# EAGLE library part 691411410010 (library Wurth_Connectors_WR-TBL Spring Clamp)
WR-TBL Serie 4114 - 7.62 mm Screwless Horizontal Cable Entry KIND PROPERTIES Pitch 7.62 mm MATERIAL PROPERTIES Insulator Material PA6/66 Insulator Flammability Rating UL94 V-0 Insulator Color Grey Contact Material INOX Steel Contact Type Stamped Wire Guard Material Copper Alloy with Tin over Nickel GENERAL INFORMATION Operating Temperature -30 up to +120 °C Compliance Lead free / RoHS ELECTRICAL PROPERTIES IR UL 10 A IR VDE 10 A Working Voltage [UL] 300 V (AC) Working Voltage [VDE] 750 V (AC) Withstanding Voltage [UL] 1600 V (AC) Withstanding Voltage [VDE] 3000 V (AC) Contact Resistance 20 mΩ Mechanical Properties Wire Strip Length 10 (mm) Wire Properties Solid Wire Section (AWG) 16 to 30 (AWG) Solid Wire Section (Metric) 1.31 to 0.05 (mm²) Stranded Wire Section (AWG) 16 to 30 (AWG) Stranded Wire Section (Metric) 1.31 to 0.05 (mm²) CERTIFICATION UL Approval E150931; E150931 Cat No. MRT1 (1) VDE Approval 40021396 VDE Approval 40021396 Type MRT1 Packaging Properties Packaging Box <https://www.we-online.com/catalog/media/o84296v209%20Family_WR-TBL4_6914114100xx.jpg> Details see: https://www.we-online.com/catalog/en/TBL_7_62_4114_SCREWLESS_HORIZONTAL_ENTRY_6914114100xx/ Updated by Ella Wu 2019-12-31 2019(C) Wurth Elektronik
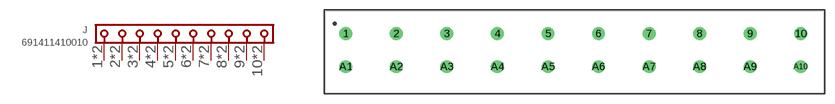
[diagram p102: symbol with the pads of 691411410010; footprint 691411410010]

Designator prefix J

## 691411410010 (DATASHEET-URL: https://www.we-online.com/redexpert/spec/691411410010?ae; IR-UL: 10A; IR-VDE: 10A; MOUNT: THT; PART-NUMBER: 691411410010; PINS: 10; PITCH: 7.62mm; TYPE: Horizontal; VALUE: 691411410010; WIRE: 16 to 30 (AWG) 1.31 to 0.05 (mm²); WORKING-VOLTAGE-UL: 300V (AC); WORKING-VOLTAGE-VDE: 750V (AC))  [691411410010]
1  1  pas
2  2  pas
3  3  pas
4  4  pas
5  5  pas
6  6  pas
7  7  pas
8  8  pas
9  9  pas
10  10  pas
A1  1  pas
A2  2  pas
A3  3  pas
A4  4  pas
A5  5  pas
A6  6  pas
A7  7  pas
A8  8  pas
A9  9  pas
A10  10  pas

## Footprint 691411410010 (pad centres in mm)
WR-TBL Serie 4114 - 7.62 mm Screwless Horizontal Cable Entry Max Height = 13.9mm , Pitch 7.62mm , 10pins
drill 1.3: 1 -34.29,2.5; 2 -26.67,2.5; 3 -19.05,2.5; 4 -11.43,2.5; 5 -3.81,2.5; 6 3.81,2.5; 7 11.43,2.5; 8 19.05,2.5; 9 26.67,2.5; 10 34.29,2.5; A1 -34.29,-2.5; A2 -26.67,-2.5; A3 -19.05,-2.5; A4 -11.43,-2.5; A5 -3.81,-2.5; A6 3.81,-2.5; A7 11.43,-2.5; A8 19.05,-2.5; A9 26.67,-2.5; A10 34.29,-2.5